# Altium integrated library Analog Devices Data Converters Digital-to-Analog Converters.IntLib: 2231 symbols (part 64 of 181)
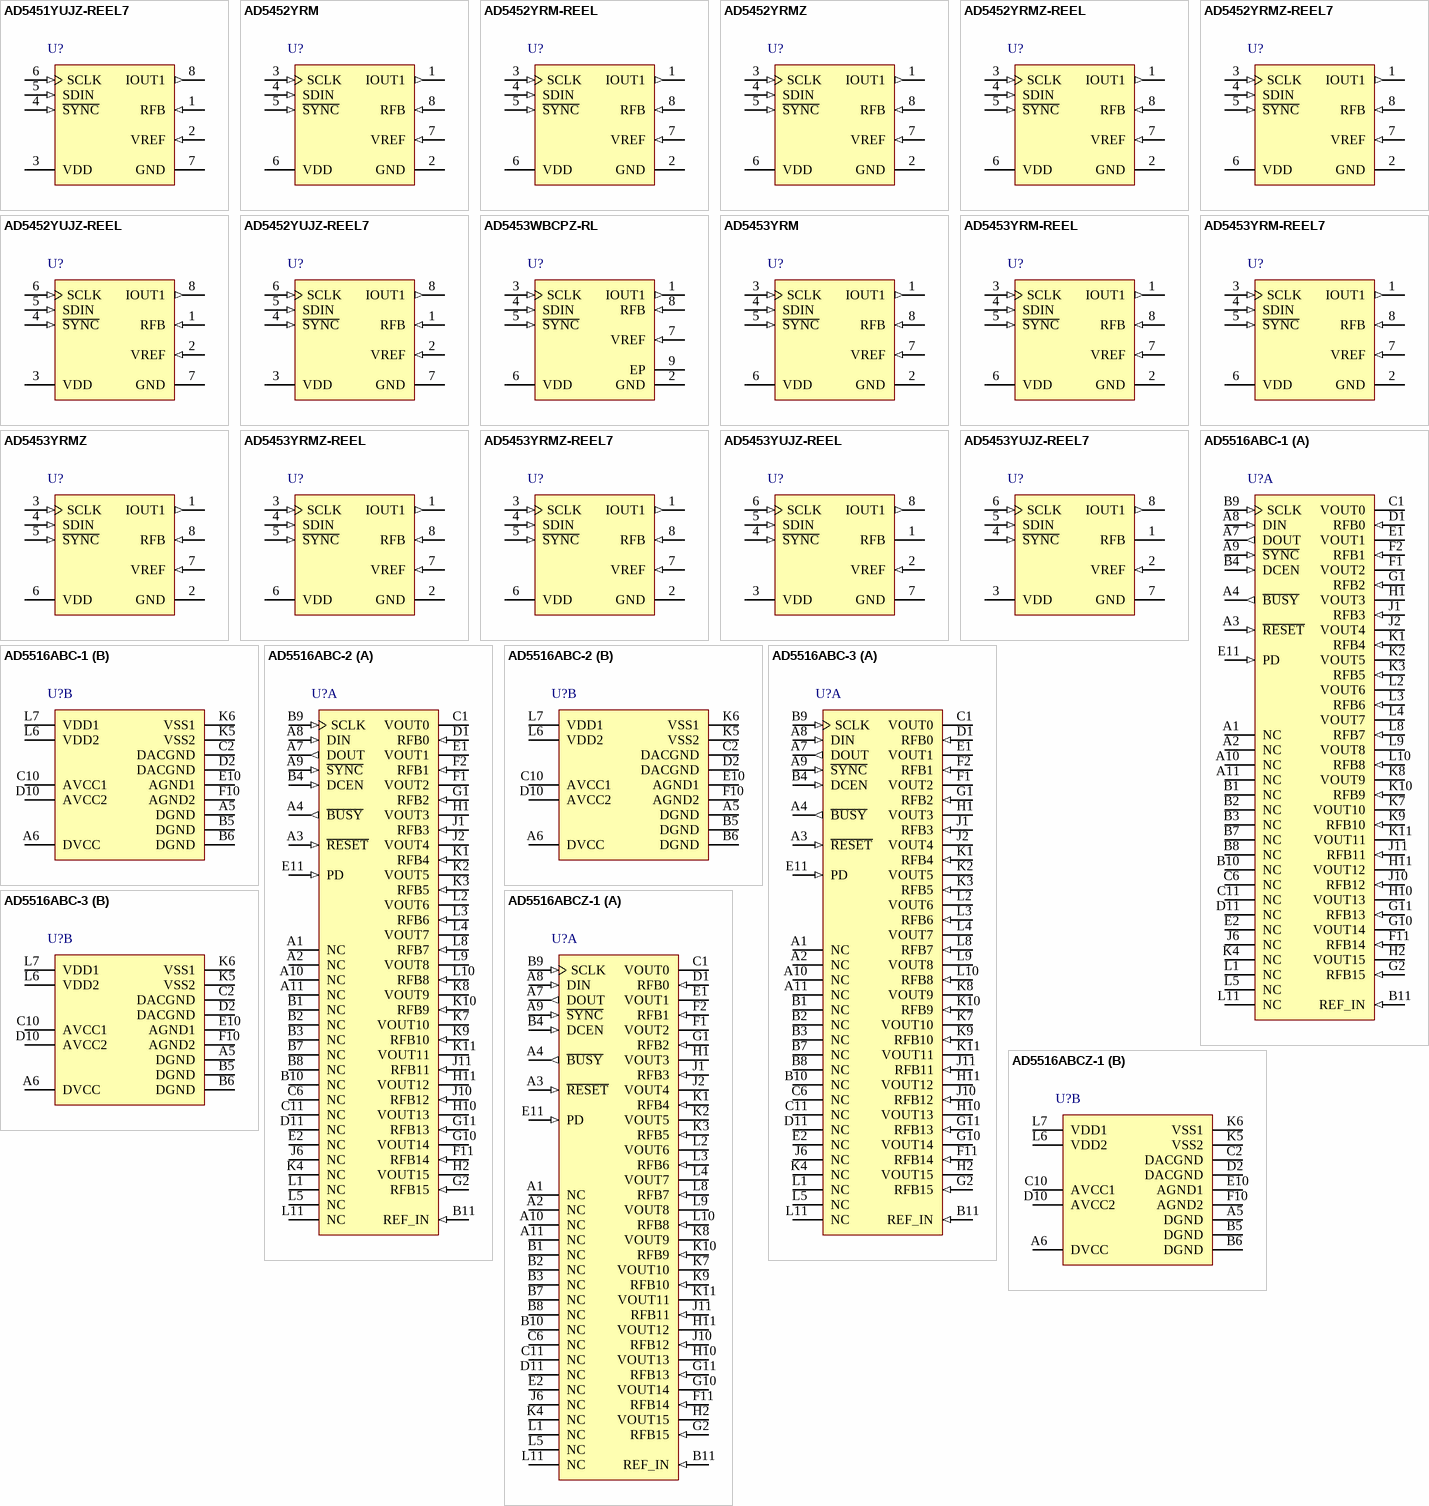
[diagram p177: symbols AD5451YUJZ-REEL7 to AD5516ABCZ-1]

## AD5453YUJZ-REEL7
designator U?
Single 14-Bit High Bandwidth Multiplying Digital-to-Analog Converter, -40 to +125 degC, UJ-8, Pb-Free, Reel; Generic Part Number: AD5453; Manufacturer: Analog Devices; PartNumber: AD5453YUJZ-REEL7; # DAC Outputs: 1; Max V+: 5.5V; Resolution (Bits): 14; Settling Time: 180ns; Single Supply: Yes; DatasheetVersion: Rev.F; PackageVersion: Dec-2004; PackageReference: UJ-8; PackageDescription: 8-Lead Thin Small Outline Transistor Package [TSOT]; Supplier 1: Digi-Key; Supplier Part Number 1: AD5453YUJZ-REEL7TR-ND; Supplier 2: Digi-Key; Supplier Part Number 2: AD5453YUJZ-REEL7CT-ND; Supplier 3: Digi-Key; Supplier Part Number 3: AD5453YUJZ-REEL7DKR-ND; Supplier 4: Newark; Supplier Part Number 4: 52M2953; Supplier 5: Mouser; Supplier Part Number 5: 584-AD5453YUJZ-R7; Packing: Reel; RoHS: Y; Mounting Technology: Surface Mount; Code_JEDEC: MO-193-BA*; ComponentLink1Description: Manufacturer URL; ComponentLink1URL: http://www.analog.com/en/index.html; ComponentLink2Description: Datasheet; ComponentLink2URL: http://www.analog.com/static/imported-files/data_sheets/AD5450_5451_5452_5453.pdf; ComponentLink3Description: Package Specification; ComponentLink3URL: http://www.analog.com/static/imported-files/packages/PKG_PDF/TSOT(UJ)/UJ_8.pdf; ComponentLink4Description: Product URL; ComponentLink4URL: http://www.analog.com/en/digital-to-analog-converters/da-converters/ad5453/products/product.html; ComponentLink5Description: Reference Design URL; ComponentLink5URL: http://www.analog.com/en/digital-to-analog-converters/da-converters/ad5453/products/product.html#prod_cross_sell
footprint UJ-8_N (SOP, 8-Leads, Body 2.9x1.6mm, Pitch 0.65mm, IPC Medium Density)
footprint UJ-8_L (SOP, 8-Leads, Body 2.9x1.6mm, Pitch 0.65mm, IPC High Density)
footprint UJ-8_M (SOP, 8-Leads, Body 2.9x1.6mm, Pitch 0.65mm, IPC Low Density)
pins: 1 RFB "DAC Feedback Resistor. Establish voltage output for the DAC by connecting to external amplifier output.", 2 VREF (in) "DAC Reference Voltage Input.", 3 VDD (power) "Positive Power Supply Input. These parts can operate from a supply of 2.5 V to 5.5 V.", 4 ~{SYNC} (in) "Active Low Control Input. This is the frame synchronization signal for the input data. Data is loaded to the shift register upon the active edge of the following clocks.", 5 SDIN (in) "Serial Data Input. Data is clocked into the 16-bit input register upon the active edge of the serial clock input. By default, in power-up mode data is clocked into the shift register upon the falling edge of SCLK. The (See Datasheet)", 6 SCLK (in) "Serial Clock Input. By default, data is clocked into the input shift register upon the falling edge of the serial clock input. Alternatively, by means of the serial control bits, the device can be configured such that data (See Datasheet)", 7 GND (power) "Ground Pin.", 8 IOUT1 (out) "DAC Current Output."

## AD5516ABC-1
designator U?
16 Channel 14-Bit Digital-to-Analog Converter, -40 to +85 degC, BC-74, Tray; Generic Part Number: AD5516; Manufacturer: Analog Devices; PartNumber: AD5516ABC-1; # DAC Outputs: 16; Max V+: 13.2V; Op Pwr Diss: 243mW; Resolution (Bits): 14; Settling Time: 32µs; Single Supply: No; DatasheetVersion: Rev.B; PackageVersion: 061306-A; PackageReference: BC-74; PackageDescription: 74-Ball Chip Scale Package Ball Grid Array [CSP_BGA]; Supplier 1: Digi-Key; Supplier Part Number 1: AD5516ABC-1-ND; Supplier 2: Newark; Supplier Part Number 2: 97C8341; Supplier 3: Mouser; Supplier Part Number 3: 584-AD5516ABC-1; Packing: Tray; RoHS: N; Mounting Technology: Surface Mount; Code_JEDEC: MO-192-ABD-1; ComponentLink1Description: Manufacturer URL; ComponentLink1URL: http://www.analog.com/en/index.html; ComponentLink2Description: Datasheet; ComponentLink2URL: http://www.analog.com/static/imported-files/data_sheets/AD5516.pdf; ComponentLink3Description: Package Specification; ComponentLink3URL: http://www.analog.com/static/imported-files/packages/466795438540441203902150BC_74.pdf; ComponentLink4Description: Product URL; ComponentLink4URL: http://www.analog.com/en/digital-to-analog-converters/da-converters/ad5516/products/product.html
footprint BC-74 (BGA, 74-Leads, Body 12x12mm, Pitch 1mm)
part A pins: A1 NC "Not Internally Connected", A2 NC "Not Internally Connected", A3 ~{RESET} (in) "Active Low Control Input. This resets all DAC registers to power-on value.", A4 ~{BUSY} (out) "Active Low Output. This signal tells the user that the analog calibration loop is active. It goes low during conversion.The duration of the pulse on B\U\S\Y\ determines the maximum DAC update rate, fUPDATE. Further writes to (See Datasheet)", A7 DOUT (out) "Serial Data Output. DOUT can be used for daisy-chaining a number of devices together or for reading back the data in the shift register for diagnostic purposes. Data is clocked out on DOUT on the rising edge of SCLK and is (See Datasheet)", A8 DIN (in) "Serial Data Input. Data must be valid on the falling edge of SCLK.", A9 ~{SYNC} (in) "Active Low Input. This is the frame synchronization signal for the serial interface. While S\Y\N\C\ is low, data is transferred in on the falling edge of SCLK.", A10 NC "Not Internally Connected", A11 NC "Not Internally Connected", B1 NC "Not Internally Connected", B2 NC "Not Internally Connected", B3 NC "Not Internally Connected", B4 DCEN (in) "Active High Control Input. This pin is tied high to enable Daisy-Chain Mode.", B7 NC "Not Internally Connected", B8 NC "Not Internally Connected", B9 SCLK (in) "Serial Clock Input. Data is clocked into the shift register on the falling edge of SCLK. This operates at clock speeds up to 20 MHz.", B10 NC "Not Internally Connected", B11 REF_IN (in) "Reference Input Voltage for All 16 DACs. The recommended value of REF_IN is 3 V.", C1 VOUT0 (hiz) "Analog Output Voltages from the 16 DAC Channels", C6 NC "Not Internally Connected", C11 NC "Not Internally Connected", D1 RFB0 (in) "Feedback Resistors. For nominal output voltage range, connect each RFB to its corresponding VOUT. Access to the feedback resistors enables the user to increase the DAC current drive or generate programmable current sources. (See Datasheet)", D11 NC "Not Internally Connected", E1 VOUT1 (hiz) "Analog Output Voltages from the 16 DAC Channels", E2 NC "Not Internally Connected", E11 PD (in) "Active High Control Input. All DACs go into power-down mode when this pin is high. The DAC outputs go into a high impedance state.", F1 VOUT2 (hiz) "Analog Output Voltages from the 16 DAC Channels", F2 RFB1 (in) "Feedback Resistors. For nominal output voltage range, connect each RFB to its corresponding VOUT. Access to the feedback resistors enables the user to increase the DAC current drive or generate programmable current sources. (See Datasheet)", F11 RFB14 (in) "Feedback Resistors. For nominal output voltage range, connect each RFB to its corresponding VOUT. Access to the feedback resistors enables the user to increase the DAC current drive or generate programmable current sources. (See Datasheet)", G1 RFB2 (in) "Feedback Resistors. For nominal output voltage range, connect each RFB to its corresponding VOUT. Access to the feedback resistors enables the user to increase the DAC current drive or generate programmable current sources. (See Datasheet)", G2 RFB15 (in) "Feedback Resistors. For nominal output voltage range, connect each RFB to its corresponding VOUT. Access to the feedback resistors enables the user to increase the DAC current drive or generate programmable current sources. (See Datasheet)", G10 VOUT14 (hiz) "Analog Output Voltages from the 16 DAC Channels", G11 RFB13 (in) "Feedback Resistors. For nominal output voltage range, connect each RFB to its corresponding VOUT. Access to the feedback resistors enables the user to increase the DAC current drive or generate programmable current sources. (See Datasheet)", H1 VOUT3 (hiz) "Analog Output Voltages from the 16 DAC Channels", H2 VOUT15 (hiz) "Analog Output Voltages from the 16 DAC Channels", H10 VOUT13 (hiz) "Analog Output Voltages from the 16 DAC Channels", H11 VOUT12 (hiz) "Analog Output Voltages from the 16 DAC Channels", J1 RFB3 (in) "Feedback Resistors. For nominal output voltage range, connect each RFB to its corresponding VOUT. Access to the feedback resistors enables the user to increase the DAC current drive or generate programmable current sources. (See Datasheet)", J2 VOUT4 (hiz) "Analog Output Voltages from the 16 DAC Channels", J6 NC "Not Internally Connected", J10 RFB12 (in) "Feedback Resistors. For nominal output voltage range, connect each RFB to its corresponding VOUT. Access to the feedback resistors enables the user to increase the DAC current drive or generate programmable current sources. (See Datasheet)", J11 RFB11 (in) "Feedback Resistors. For nominal output voltage range, connect each RFB to its corresponding VOUT. Access to the feedback resistors enables the user to increase the DAC current drive or generate programmable current sources. (See Datasheet)", K1 RFB4 (in) "Feedback Resistors. For nominal output voltage range, connect each RFB to its corresponding VOUT. Access to the feedback resistors enables the user to increase the DAC current drive or generate programmable current sources. (See Datasheet)", K2 VOUT5 (hiz) "Analog Output Voltages from the 16 DAC Channels", K3 RFB5 (in) "Feedback Resistors. For nominal output voltage range, connect each RFB to its corresponding VOUT. Access to the feedback resistors enables the user to increase the DAC current drive or generate programmable current sources. (See Datasheet)", K4 NC "Not Internally Connected", K7 VOUT10 (hiz) "Analog Output Voltages from the 16 DAC Channels", K8 VOUT9 (hiz) "Analog Output Voltages from the 16 DAC Channels", K9 RFB10 (in) "Feedback Resistors. For nominal output voltage range, connect each RFB to its corresponding VOUT. Access to the feedback resistors enables the user to increase the DAC current drive or generate programmable current sources. (See Datasheet)", K10 RFB9 (in) "Feedback Resistors. For nominal output voltage range, connect each RFB to its corresponding VOUT. Access to the feedback resistors enables the user to increase the DAC current drive or generate programmable current sources. (See Datasheet)", K11 VOUT11 (hiz) "Analog Output Voltages from the 16 DAC Channels", L1 NC "Not Internally Connected", L2 VOUT6 (hiz) "Analog Output Voltages from the 16 DAC Channels", L3 RFB6 (in) "Feedback Resistors. For nominal output voltage range, connect each RFB to its corresponding VOUT. Access to the feedback resistors enables the user to increase the DAC current drive or generate programmable current sources. (See Datasheet)", L4 VOUT7 (hiz) "Analog Output Voltages from the 16 DAC Channels", L5 NC "Not Internally Connected", L8 RFB7 (in) "Feedback Resistors. For nominal output voltage range, connect each RFB to its corresponding VOUT. Access to the feedback resistors enables the user to increase the DAC current drive or generate programmable current sources. (See Datasheet)", L9 VOUT8 (hiz) "Analog Output Voltages from the 16 DAC Channels", L10 RFB8 (in) "Feedback Resistors. For nominal output voltage range, connect each RFB to its corresponding VOUT. Access to the feedback resistors enables the user to increase the DAC current drive or generate programmable current sources. (See Datasheet)", L11 NC "Not Internally Connected"
part B pins: A5 DGND (power) "Digital GND Pins", A6 DVCC (power) "Digital Supply Pin. Voltage range from 2.7 V to 5.25 V.", B5 DGND (power) "Digital GND Pins", B6 DGND (power) "Digital GND Pins", C2 DACGND (power) "Reference GND Supply for All 16 DACs", C10 AVCC1 (power) "Analog Supply Pins. Voltage range from 4.75 V to 5.25 V.", D2 DACGND (power) "Reference GND Supply for All 16 DACs", D10 AVCC2 (power) "Analog Supply Pins. Voltage range from 4.75 V to 5.25 V.", E10 AGND1 (power) "Analog GND Pins", F10 AGND2 (power) "Analog GND Pins", K5 VSS2 (power) "VSS Supply Pins. Voltage range from -4.75 V to -15.75 V.", K6 VSS1 (power) "VSS Supply Pins. Voltage range from -4.75 V to -15.75 V.", L6 VDD2 (power) "VDD Supply Pins. Voltage range from 4.75 V to 15.75 V.", L7 VDD1 (power) "VDD Supply Pins. Voltage range from 4.75 V to 15.75 V."

## AD5516ABC-2
designator U?
16 Channel 14-Bit Digital-to-Analog Converter, -40 to +85 degC, BC-74, Tray; Generic Part Number: AD5516; Manufacturer: Analog Devices; PartNumber: AD5516ABC-2; # DAC Outputs: 16; Max V+: 13.2V; Op Pwr Diss: 243mW; Resolution (Bits): 14; Settling Time: 32µs; Single Supply: No; DatasheetVersion: Rev.B; PackageVersion: 061306-A; PackageReference: BC-74; PackageDescription: 74-Ball Chip Scale Package Ball Grid Array [CSP_BGA]; Supplier 1: Digi-Key; Supplier Part Number 1: AD5516ABC-2-ND; Supplier 2: Mouser; Supplier Part Number 2: 584-AD5516ABC-2; Packing: Tray; RoHS: N; Mounting Technology: Surface Mount; Code_JEDEC: MO-192-ABD-1; ComponentLink1Description: Manufacturer URL; ComponentLink1URL: http://www.analog.com/en/index.html; ComponentLink2Description: Datasheet; ComponentLink2URL: http://www.analog.com/static/imported-files/data_sheets/AD5516.pdf; ComponentLink3Description: Package Specification; ComponentLink3URL: http://www.analog.com/static/imported-files/packages/466795438540441203902150BC_74.pdf; ComponentLink4Description: Product URL; ComponentLink4URL: http://www.analog.com/en/digital-to-analog-converters/da-converters/ad5516/products/product.html
footprint BC-74 (BGA, 74-Leads, Body 12x12mm, Pitch 1mm)
part A pins: A1 NC "Not Internally Connected", A2 NC "Not Internally Connected", A3 ~{RESET} (in) "Active Low Control Input. This resets all DAC registers to power-on value.", A4 ~{BUSY} (out) "Active Low Output. This signal tells the user that the analog calibration loop is active. It goes low during conversion.The duration of the pulse on B\U\S\Y\ determines the maximum DAC update rate, fUPDATE. Further writes to (See Datasheet)", A7 DOUT (out) "Serial Data Output. DOUT can be used for daisy-chaining a number of devices together or for reading back the data in the shift register for diagnostic purposes. Data is clocked out on DOUT on the rising edge of SCLK and is (See Datasheet)", A8 DIN (in) "Serial Data Input. Data must be valid on the falling edge of SCLK.", A9 ~{SYNC} (in) "Active Low Input. This is the frame synchronization signal for the serial interface. While S\Y\N\C\ is low, data is transferred in on the falling edge of SCLK.", A10 NC "Not Internally Connected", A11 NC "Not Internally Connected", B1 NC "Not Internally Connected", B2 NC "Not Internally Connected", B3 NC "Not Internally Connected", B4 DCEN (in) "Active High Control Input. This pin is tied high to enable Daisy-Chain Mode.", B7 NC "Not Internally Connected", B8 NC "Not Internally Connected", B9 SCLK (in) "Serial Clock Input. Data is clocked into the shift register on the falling edge of SCLK. This operates at clock speeds up to 20 MHz.", B10 NC "Not Internally Connected", B11 REF_IN (in) "Reference Input Voltage for All 16 DACs. The recommended value of REF_IN is 3 V.", C1 VOUT0 (hiz) "Analog Output Voltages from the 16 DAC Channels", C6 NC "Not Internally Connected", C11 NC "Not Internally Connected", D1 RFB0 (in) "Feedback Resistors. For nominal output voltage range, connect each RFB to its corresponding VOUT. Access to the feedback resistors enables the user to increase the DAC current drive or generate programmable current sources. (See Datasheet)", D11 NC "Not Internally Connected", E1 VOUT1 (hiz) "Analog Output Voltages from the 16 DAC Channels", E2 NC "Not Internally Connected", E11 PD (in) "Active High Control Input. All DACs go into power-down mode when this pin is high. The DAC outputs go into a high impedance state.", F1 VOUT2 (hiz) "Analog Output Voltages from the 16 DAC Channels", F2 RFB1 (in) "Feedback Resistors. For nominal output voltage range, connect each RFB to its corresponding VOUT. Access to the feedback resistors enables the user to increase the DAC current drive or generate programmable current sources. (See Datasheet)", F11 RFB14 (in) "Feedback Resistors. For nominal output voltage range, connect each RFB to its corresponding VOUT. Access to the feedback resistors enables the user to increase the DAC current drive or generate programmable current sources. (See Datasheet)", G1 RFB2 (in) "Feedback Resistors. For nominal output voltage range, connect each RFB to its corresponding VOUT. Access to the feedback resistors enables the user to increase the DAC current drive or generate programmable current sources. (See Datasheet)", G2 RFB15 (in) "Feedback Resistors. For nominal output voltage range, connect each RFB to its corresponding VOUT. Access to the feedback resistors enables the user to increase the DAC current drive or generate programmable current sources. (See Datasheet)", G10 VOUT14 (hiz) "Analog Output Voltages from the 16 DAC Channels", G11 RFB13 (in) "Feedback Resistors. For nominal output voltage range, connect each RFB to its corresponding VOUT. Access to the feedback resistors enables the user to increase the DAC current drive or generate programmable current sources. (See Datasheet)", H1 VOUT3 (hiz) "Analog Output Voltages from the 16 DAC Channels", H2 VOUT15 (hiz) "Analog Output Voltages from the 16 DAC Channels", H10 VOUT13 (hiz) "Analog Output Voltages from the 16 DAC Channels", H11 VOUT12 (hiz) "Analog Output Voltages from the 16 DAC Channels", J1 RFB3 (in) "Feedback Resistors. For nominal output voltage range, connect each RFB to its corresponding VOUT. Access to the feedback resistors enables the user to increase the DAC current drive or generate programmable current sources. (See Datasheet)", J2 VOUT4 (hiz) "Analog Output Voltages from the 16 DAC Channels", J6 NC "Not Internally Connected", J10 RFB12 (in) "Feedback Resistors. For nominal output voltage range, connect each RFB to its corresponding VOUT. Access to the feedback resistors enables the user to increase the DAC current drive or generate programmable current sources. (See Datasheet)", J11 RFB11 (in) "Feedback Resistors. For nominal output voltage range, connect each RFB to its corresponding VOUT. Access to the feedback resistors enables the user to increase the DAC current drive or generate programmable current sources. (See Datasheet)", K1 RFB4 (in) "Feedback Resistors. For nominal output voltage range, connect each RFB to its corresponding VOUT. Access to the feedback resistors enables the user to increase the DAC current drive or generate programmable current sources. (See Datasheet)", K2 VOUT5 (hiz) "Analog Output Voltages from the 16 DAC Channels", K3 RFB5 (in) "Feedback Resistors. For nominal output voltage range, connect each RFB to its corresponding VOUT. Access to the feedback resistors enables the user to increase the DAC current drive or generate programmable current sources. (See Datasheet)", K4 NC "Not Internally Connected", K7 VOUT10 (hiz) "Analog Output Voltages from the 16 DAC Channels", K8 VOUT9 (hiz) "Analog Output Voltages from the 16 DAC Channels", K9 RFB10 (in) "Feedback Resistors. For nominal output voltage range, connect each RFB to its corresponding VOUT. Access to the feedback resistors enables the user to increase the DAC current drive or generate programmable current sources. (See Datasheet)", K10 RFB9 (in) "Feedback Resistors. For nominal output voltage range, connect each RFB to its corresponding VOUT. Access to the feedback resistors enables the user to increase the DAC current drive or generate programmable current sources. (See Datasheet)", K11 VOUT11 (hiz) "Analog Output Voltages from the 16 DAC Channels", L1 NC "Not Internally Connected", L2 VOUT6 (hiz) "Analog Output Voltages from the 16 DAC Channels", L3 RFB6 (in) "Feedback Resistors. For nominal output voltage range, connect each RFB to its corresponding VOUT. Access to the feedback resistors enables the user to increase the DAC current drive or generate programmable current sources. (See Datasheet)", L4 VOUT7 (hiz) "Analog Output Voltages from the 16 DAC Channels", L5 NC "Not Internally Connected", L8 RFB7 (in) "Feedback Resistors. For nominal output voltage range, connect each RFB to its corresponding VOUT. Access to the feedback resistors enables the user to increase the DAC current drive or generate programmable current sources. (See Datasheet)", L9 VOUT8 (hiz) "Analog Output Voltages from the 16 DAC Channels", L10 RFB8 (in) "Feedback Resistors. For nominal output voltage range, connect each RFB to its corresponding VOUT. Access to the feedback resistors enables the user to increase the DAC current drive or generate programmable current sources. (See Datasheet)", L11 NC "Not Internally Connected"
part B pins: A5 DGND (power) "Digital GND Pins", A6 DVCC (power) "Digital Supply Pin. Voltage range from 2.7 V to 5.25 V.", B5 DGND (power) "Digital GND Pins", B6 DGND (power) "Digital GND Pins", C2 DACGND (power) "Reference GND Supply for All 16 DACs", C10 AVCC1 (power) "Analog Supply Pins. Voltage range from 4.75 V to 5.25 V.", D2 DACGND (power) "Reference GND Supply for All 16 DACs", D10 AVCC2 (power) "Analog Supply Pins. Voltage range from 4.75 V to 5.25 V.", E10 AGND1 (power) "Analog GND Pins", F10 AGND2 (power) "Analog GND Pins", K5 VSS2 (power) "VSS Supply Pins. Voltage range from -4.75 V to -15.75 V.", K6 VSS1 (power) "VSS Supply Pins. Voltage range from -4.75 V to -15.75 V.", L6 VDD2 (power) "VDD Supply Pins. Voltage range from 4.75 V to 15.75 V.", L7 VDD1 (power) "VDD Supply Pins. Voltage range from 4.75 V to 15.75 V."

## AD5516ABC-3
designator U?
16 Channel 14-Bit Digital-to-Analog Converter, -40 to +85 degC, BC-74, Tray; Generic Part Number: AD5516; Manufacturer: Analog Devices; PartNumber: AD5516ABC-3; # DAC Outputs: 16; Max V+: 13.2V; Op Pwr Diss: 243mW; Resolution (Bits): 14; Settling Time: 32µs; Single Supply: No; DatasheetVersion: Rev.B; PackageVersion: 061306-A; PackageReference: BC-74; PackageDescription: 74-Ball Chip Scale Package Ball Grid Array [CSP_BGA]; Supplier 1: Digi-Key; Supplier Part Number 1: AD5516ABC-3-ND; Supplier 2: Newark; Supplier Part Number 2: 97C7188; Supplier 3: Mouser; Supplier Part Number 3: 584-AD5516ABC-3; Packing: Tray; RoHS: N; Mounting Technology: Surface Mount; Code_JEDEC: MO-192-ABD-1; ComponentLink1Description: Manufacturer URL; ComponentLink1URL: http://www.analog.com/en/index.html; ComponentLink2Description: Datasheet; ComponentLink2URL: http://www.analog.com/static/imported-files/data_sheets/AD5516.pdf; ComponentLink3Description: Package Specification; ComponentLink3URL: http://www.analog.com/static/imported-files/packages/466795438540441203902150BC_74.pdf; ComponentLink4Description: Product URL; ComponentLink4URL: http://www.analog.com/en/digital-to-analog-converters/da-converters/ad5516/products/product.html
footprint BC-74 (BGA, 74-Leads, Body 12x12mm, Pitch 1mm)
part A pins: A1 NC "Not Internally Connected", A2 NC "Not Internally Connected", A3 ~{RESET} (in) "Active Low Control Input. This resets all DAC registers to power-on value.", A4 ~{BUSY} (out) "Active Low Output. This signal tells the user that the analog calibration loop is active. It goes low during conversion.The duration of the pulse on B\U\S\Y\ determines the maximum DAC update rate, fUPDATE. Further writes to (See Datasheet)", A7 DOUT (out) "Serial Data Output. DOUT can be used for daisy-chaining a number of devices together or for reading back the data in the shift register for diagnostic purposes. Data is clocked out on DOUT on the rising edge of SCLK and is (See Datasheet)", A8 DIN (in) "Serial Data Input. Data must be valid on the falling edge of SCLK.", A9 ~{SYNC} (in) "Active Low Input. This is the frame synchronization signal for the serial interface. While S\Y\N\C\ is low, data is transferred in on the falling edge of SCLK.", A10 NC "Not Internally Connected", A11 NC "Not Internally Connected", B1 NC "Not Internally Connected", B2 NC "Not Internally Connected", B3 NC "Not Internally Connected", B4 DCEN (in) "Active High Control Input. This pin is tied high to enable Daisy-Chain Mode.", B7 NC "Not Internally Connected", B8 NC "Not Internally Connected", B9 SCLK (in) "Serial Clock Input. Data is clocked into the shift register on the falling edge of SCLK. This operates at clock speeds up to 20 MHz.", B10 NC "Not Internally Connected", B11 REF_IN (in) "Reference Input Voltage for All 16 DACs. The recommended value of REF_IN is 3 V.", C1 VOUT0 (hiz) "Analog Output Voltages from the 16 DAC Channels", C6 NC "Not Internally Connected", C11 NC "Not Internally Connected", D1 RFB0 (in) "Feedback Resistors. For nominal output voltage range, connect each RFB to its corresponding VOUT. Access to the feedback resistors enables the user to increase the DAC current drive or generate programmable current sources. (See Datasheet)", D11 NC "Not Internally Connected", E1 VOUT1 (hiz) "Analog Output Voltages from the 16 DAC Channels", E2 NC "Not Internally Connected", E11 PD (in) "Active High Control Input. All DACs go into power-down mode when this pin is high. The DAC outputs go into a high impedance state.", F1 VOUT2 (hiz) "Analog Output Voltages from the 16 DAC Channels", F2 RFB1 (in) "Feedback Resistors. For nominal output voltage range, connect each RFB to its corresponding VOUT. Access to the feedback resistors enables the user to increase the DAC current drive or generate programmable current sources. (See Datasheet)", F11 RFB14 (in) "Feedback Resistors. For nominal output voltage range, connect each RFB to its corresponding VOUT. Access to the feedback resistors enables the user to increase the DAC current drive or generate programmable current sources. (See Datasheet)", G1 RFB2 (in) "Feedback Resistors. For nominal output voltage range, connect each RFB to its corresponding VOUT. Access to the feedback resistors enables the user to increase the DAC current drive or generate programmable current sources. (See Datasheet)", G2 RFB15 (in) "Feedback Resistors. For nominal output voltage range, connect each RFB to its corresponding VOUT. Access to the feedback resistors enables the user to increase the DAC current drive or generate programmable current sources. (See Datasheet)", G10 VOUT14 (hiz) "Analog Output Voltages from the 16 DAC Channels", G11 RFB13 (in) "Feedback Resistors. For nominal output voltage range, connect each RFB to its corresponding VOUT. Access to the feedback resistors enables the user to increase the DAC current drive or generate programmable current sources. (See Datasheet)", H1 VOUT3 (hiz) "Analog Output Voltages from the 16 DAC Channels", H2 VOUT15 (hiz) "Analog Output Voltages from the 16 DAC Channels", H10 VOUT13 (hiz) "Analog Output Voltages from the 16 DAC Channels", H11 VOUT12 (hiz) "Analog Output Voltages from the 16 DAC Channels", J1 RFB3 (in) "Feedback Resistors. For nominal output voltage range, connect each RFB to its corresponding VOUT. Access to the feedback resistors enables the user to increase the DAC current drive or generate programmable current sources. (See Datasheet)", J2 VOUT4 (hiz) "Analog Output Voltages from the 16 DAC Channels", J6 NC "Not Internally Connected", J10 RFB12 (in) "Feedback Resistors. For nominal output voltage range, connect each RFB to its corresponding VOUT. Access to the feedback resistors enables the user to increase the DAC current drive or generate programmable current sources. (See Datasheet)", J11 RFB11 (in) "Feedback Resistors. For nominal output voltage range, connect each RFB to its corresponding VOUT. Access to the feedback resistors enables the user to increase the DAC current drive or generate programmable current sources. (See Datasheet)", K1 RFB4 (in) "Feedback Resistors. For nominal output voltage range, connect each RFB to its corresponding VOUT. Access to the feedback resistors enables the user to increase the DAC current drive or generate programmable current sources. (See Datasheet)", K2 VOUT5 (hiz) "Analog Output Voltages from the 16 DAC Channels", K3 RFB5 (in) "Feedback Resistors. For nominal output voltage range, connect each RFB to its corresponding VOUT. Access to the feedback resistors enables the user to increase the DAC current drive or generate programmable current sources. (See Datasheet)", K4 NC "Not Internally Connected", K7 VOUT10 (hiz) "Analog Output Voltages from the 16 DAC Channels", K8 VOUT9 (hiz) "Analog Output Voltages from the 16 DAC Channels", K9 RFB10 (in) "Feedback Resistors. For nominal output voltage range, connect each RFB to its corresponding VOUT. Access to the feedback resistors enables the user to increase the DAC current drive or generate programmable current sources. (See Datasheet)", K10 RFB9 (in) "Feedback Resistors. For nominal output voltage range, connect each RFB to its corresponding VOUT. Access to the feedback resistors enables the user to increase the DAC current drive or generate programmable current sources. (See Datasheet)", K11 VOUT11 (hiz) "Analog Output Voltages from the 16 DAC Channels", L1 NC "Not Internally Connected", L2 VOUT6 (hiz) "Analog Output Voltages from the 16 DAC Channels", L3 RFB6 (in) "Feedback Resistors. For nominal output voltage range, connect each RFB to its corresponding VOUT. Access to the feedback resistors enables the user to increase the DAC current drive or generate programmable current sources. (See Datasheet)", L4 VOUT7 (hiz) "Analog Output Voltages from the 16 DAC Channels", L5 NC "Not Internally Connected", L8 RFB7 (in) "Feedback Resistors. For nominal output voltage range, connect each RFB to its corresponding VOUT. Access to the feedback resistors enables the user to increase the DAC current drive or generate programmable current sources. (See Datasheet)", L9 VOUT8 (hiz) "Analog Output Voltages from the 16 DAC Channels", L10 RFB8 (in) "Feedback Resistors. For nominal output voltage range, connect each RFB to its corresponding VOUT. Access to the feedback resistors enables the user to increase the DAC current drive or generate programmable current sources. (See Datasheet)", L11 NC "Not Internally Connected"
part B pins: A5 DGND (power) "Digital GND Pins", A6 DVCC (power) "Digital Supply Pin. Voltage range from 2.7 V to 5.25 V.", B5 DGND (power) "Digital GND Pins", B6 DGND (power) "Digital GND Pins", C2 DACGND (power) "Reference GND Supply for All 16 DACs", C10 AVCC1 (power) "Analog Supply Pins. Voltage range from 4.75 V to 5.25 V.", D2 DACGND (power) "Reference GND Supply for All 16 DACs", D10 AVCC2 (power) "Analog Supply Pins. Voltage range from 4.75 V to 5.25 V.", E10 AGND1 (power) "Analog GND Pins", F10 AGND2 (power) "Analog GND Pins", K5 VSS2 (power) "VSS Supply Pins. Voltage range from -4.75 V to -15.75 V.", K6 VSS1 (power) "VSS Supply Pins. Voltage range from -4.75 V to -15.75 V.", L6 VDD2 (power) "VDD Supply Pins. Voltage range from 4.75 V to 15.75 V.", L7 VDD1 (power) "VDD Supply Pins. Voltage range from 4.75 V to 15.75 V."

## AD5516ABCZ-1
designator U?
16 Channel 14-Bit Digital-to-Analog Converter, -40 to +85 degC, BC-74, Pb-Free, Tray; Generic Part Number: AD5516; Manufacturer: Analog Devices; PartNumber: AD5516ABCZ-1; # DAC Outputs: 16; Max V+: 13.2V; Op Pwr Diss: 243mW; Resolution (Bits): 14; Settling Time: 32µs; Single Supply: No; DatasheetVersion: Rev.B; PackageVersion: 061306-A; PackageReference: BC-74; PackageDescription: 74-Ball Chip Scale Package Ball Grid Array [CSP_BGA]; Supplier 1: Digi-Key; Supplier Part Number 1: AD5516ABCZ-1-ND; Supplier 2: Mouser; Supplier Part Number 2: 584-AD5516ABCZ-1; Packing: Tray; RoHS: Y; Mounting Technology: Surface Mount; Code_JEDEC: MO-192-ABD-1; ComponentLink1Description: Manufacturer URL; ComponentLink1URL: http://www.analog.com/en/index.html; ComponentLink2Description: Datasheet; ComponentLink2URL: http://www.analog.com/static/imported-files/data_sheets/AD5516.pdf; ComponentLink3Description: Package Specification; ComponentLink3URL: http://www.analog.com/static/imported-files/packages/466795438540441203902150BC_74.pdf; ComponentLink4Description: Product URL; ComponentLink4URL: http://www.analog.com/en/digital-to-analog-converters/da-converters/ad5516/products/product.html
footprint BC-74 (BGA, 74-Leads, Body 12x12mm, Pitch 1mm)
part A pins: A1 NC "Not Internally Connected", A2 NC "Not Internally Connected", A3 ~{RESET} (in) "Active Low Control Input. This resets all DAC registers to power-on value.", A4 ~{BUSY} (out) "Active Low Output. This signal tells the user that the analog calibration loop is active. It goes low during conversion.The duration of the pulse on B\U\S\Y\ determines the maximum DAC update rate, fUPDATE. Further writes to (See Datasheet)", A7 DOUT (out) "Serial Data Output. DOUT can be used for daisy-chaining a number of devices together or for reading back the data in the shift register for diagnostic purposes. Data is clocked out on DOUT on the rising edge of SCLK and is (See Datasheet)", A8 DIN (in) "Serial Data Input. Data must be valid on the falling edge of SCLK.", A9 ~{SYNC} (in) "Active Low Input. This is the frame synchronization signal for the serial interface. While S\Y\N\C\ is low, data is transferred in on the falling edge of SCLK.", A10 NC "Not Internally Connected", A11 NC "Not Internally Connected", B1 NC "Not Internally Connected", B2 NC "Not Internally Connected", B3 NC "Not Internally Connected", B4 DCEN (in) "Active High Control Input. This pin is tied high to enable Daisy-Chain Mode.", B7 NC "Not Internally Connected", B8 NC "Not Internally Connected", B9 SCLK (in) "Serial Clock Input. Data is clocked into the shift register on the falling edge of SCLK. This operates at clock speeds up to 20 MHz.", B10 NC "Not Internally Connected", B11 REF_IN (in) "Reference Input Voltage for All 16 DACs. The recommended value of REF_IN is 3 V.", C1 VOUT0 (hiz) "Analog Output Voltages from the 16 DAC Channels", C6 NC "Not Internally Connected", C11 NC "Not Internally Connected", D1 RFB0 (in) "Feedback Resistors. For nominal output voltage range, connect each RFB to its corresponding VOUT. Access to the feedback resistors enables the user to increase the DAC current drive or generate programmable current sources. (See Datasheet)", D11 NC "Not Internally Connected", E1 VOUT1 (hiz) "Analog Output Voltages from the 16 DAC Channels", E2 NC "Not Internally Connected", E11 PD (in) "Active High Control Input. All DACs go into power-down mode when this pin is high. The DAC outputs go into a high impedance state.", F1 VOUT2 (hiz) "Analog Output Voltages from the 16 DAC Channels", F2 RFB1 (in) "Feedback Resistors. For nominal output voltage range, connect each RFB to its corresponding VOUT. Access to the feedback resistors enables the user to increase the DAC current drive or generate programmable current sources. (See Datasheet)", F11 RFB14 (in) "Feedback Resistors. For nominal output voltage range, connect each RFB to its corresponding VOUT. Access to the feedback resistors enables the user to increase the DAC current drive or generate programmable current sources. (See Datasheet)", G1 RFB2 (in) "Feedback Resistors. For nominal output voltage range, connect each RFB to its corresponding VOUT. Access to the feedback resistors enables the user to increase the DAC current drive or generate programmable current sources. (See Datasheet)", G2 RFB15 (in) "Feedback Resistors. For nominal output voltage range, connect each RFB to its corresponding VOUT. Access to the feedback resistors enables the user to increase the DAC current drive or generate programmable current sources. (See Datasheet)", G10 VOUT14 (hiz) "Analog Output Voltages from the 16 DAC Channels", G11 RFB13 (in) "Feedback Resistors. For nominal output voltage range, connect each RFB to its corresponding VOUT. Access to the feedback resistors enables the user to increase the DAC current drive or generate programmable current sources. (See Datasheet)", H1 VOUT3 (hiz) "Analog Output Voltages from the 16 DAC Channels", H2 VOUT15 (hiz) "Analog Output Voltages from the 16 DAC Channels", H10 VOUT13 (hiz) "Analog Output Voltages from the 16 DAC Channels", H11 VOUT12 (hiz) "Analog Output Voltages from the 16 DAC Channels", J1 RFB3 (in) "Feedback Resistors. For nominal output voltage range, connect each RFB to its corresponding VOUT. Access to the feedback resistors enables the user to increase the DAC current drive or generate programmable current sources. (See Datasheet)", J2 VOUT4 (hiz) "Analog Output Voltages from the 16 DAC Channels", J6 NC "Not Internally Connected", J10 RFB12 (in) "Feedback Resistors. For nominal output voltage range, connect each RFB to its corresponding VOUT. Access to the feedback resistors enables the user to increase the DAC current drive or generate programmable current sources. (See Datasheet)", J11 RFB11 (in) "Feedback Resistors. For nominal output voltage range, connect each RFB to its corresponding VOUT. Access to the feedback resistors enables the user to increase the DAC current drive or generate programmable current sources. (See Datasheet)", K1 RFB4 (in) "Feedback Resistors. For nominal output voltage range, connect each RFB to its corresponding VOUT. Access to the feedback resistors enables the user to increase the DAC current drive or generate programmable current sources. (See Datasheet)", K2 VOUT5 (hiz) "Analog Output Voltages from the 16 DAC Channels", K3 RFB5 (in) "Feedback Resistors. For nominal output voltage range, connect each RFB to its corresponding VOUT. Access to the feedback resistors enables the user to increase the DAC current drive or generate programmable current sources. (See Datasheet)", K4 NC "Not Internally Connected", K7 VOUT10 (hiz) "Analog Output Voltages from the 16 DAC Channels", K8 VOUT9 (hiz) "Analog Output Voltages from the 16 DAC Channels", K9 RFB10 (in) "Feedback Resistors. For nominal output voltage range, connect each RFB to its corresponding VOUT. Access to the feedback resistors enables the user to increase the DAC current drive or generate programmable current sources. (See Datasheet)", K10 RFB9 (in) "Feedback Resistors. For nominal output voltage range, connect each RFB to its corresponding VOUT. Access to the feedback resistors enables the user to increase the DAC current drive or generate programmable current sources. (See Datasheet)", K11 VOUT11 (hiz) "Analog Output Voltages from the 16 DAC Channels", L1 NC "Not Internally Connected", L2 VOUT6 (hiz) "Analog Output Voltages from the 16 DAC Channels", L3 RFB6 (in) "Feedback Resistors. For nominal output voltage range, connect each RFB to its corresponding VOUT. Access to the feedback resistors enables the user to increase the DAC current drive or generate programmable current sources. (See Datasheet)", L4 VOUT7 (hiz) "Analog Output Voltages from the 16 DAC Channels", L5 NC "Not Internally Connected", L8 RFB7 (in) "Feedback Resistors. For nominal output voltage range, connect each RFB to its corresponding VOUT. Access to the feedback resistors enables the user to increase the DAC current drive or generate programmable current sources. (See Datasheet)", L9 VOUT8 (hiz) "Analog Output Voltages from the 16 DAC Channels", L10 RFB8 (in) "Feedback Resistors. For nominal output voltage range, connect each RFB to its corresponding VOUT. Access to the feedback resistors enables the user to increase the DAC current drive or generate programmable current sources. (See Datasheet)", L11 NC "Not Internally Connected"
part B pins: A5 DGND (power) "Digital GND Pins", A6 DVCC (power) "Digital Supply Pin. Voltage range from 2.7 V to 5.25 V.", B5 DGND (power) "Digital GND Pins", B6 DGND (power) "Digital GND Pins", C2 DACGND (power) "Reference GND Supply for All 16 DACs", C10 AVCC1 (power) "Analog Supply Pins. Voltage range from 4.75 V to 5.25 V.", D2 DACGND (power) "Reference GND Supply for All 16 DACs", D10 AVCC2 (power) "Analog Supply Pins. Voltage range from 4.75 V to 5.25 V.", E10 AGND1 (power) "Analog GND Pins", F10 AGND2 (power) "Analog GND Pins", K5 VSS2 (power) "VSS Supply Pins. Voltage range from -4.75 V to -15.75 V.", K6 VSS1 (power) "VSS Supply Pins. Voltage range from -4.75 V to -15.75 V.", L6 VDD2 (power) "VDD Supply Pins. Voltage range from 4.75 V to 15.75 V.", L7 VDD1 (power) "VDD Supply Pins. Voltage range from 4.75 V to 15.75 V."

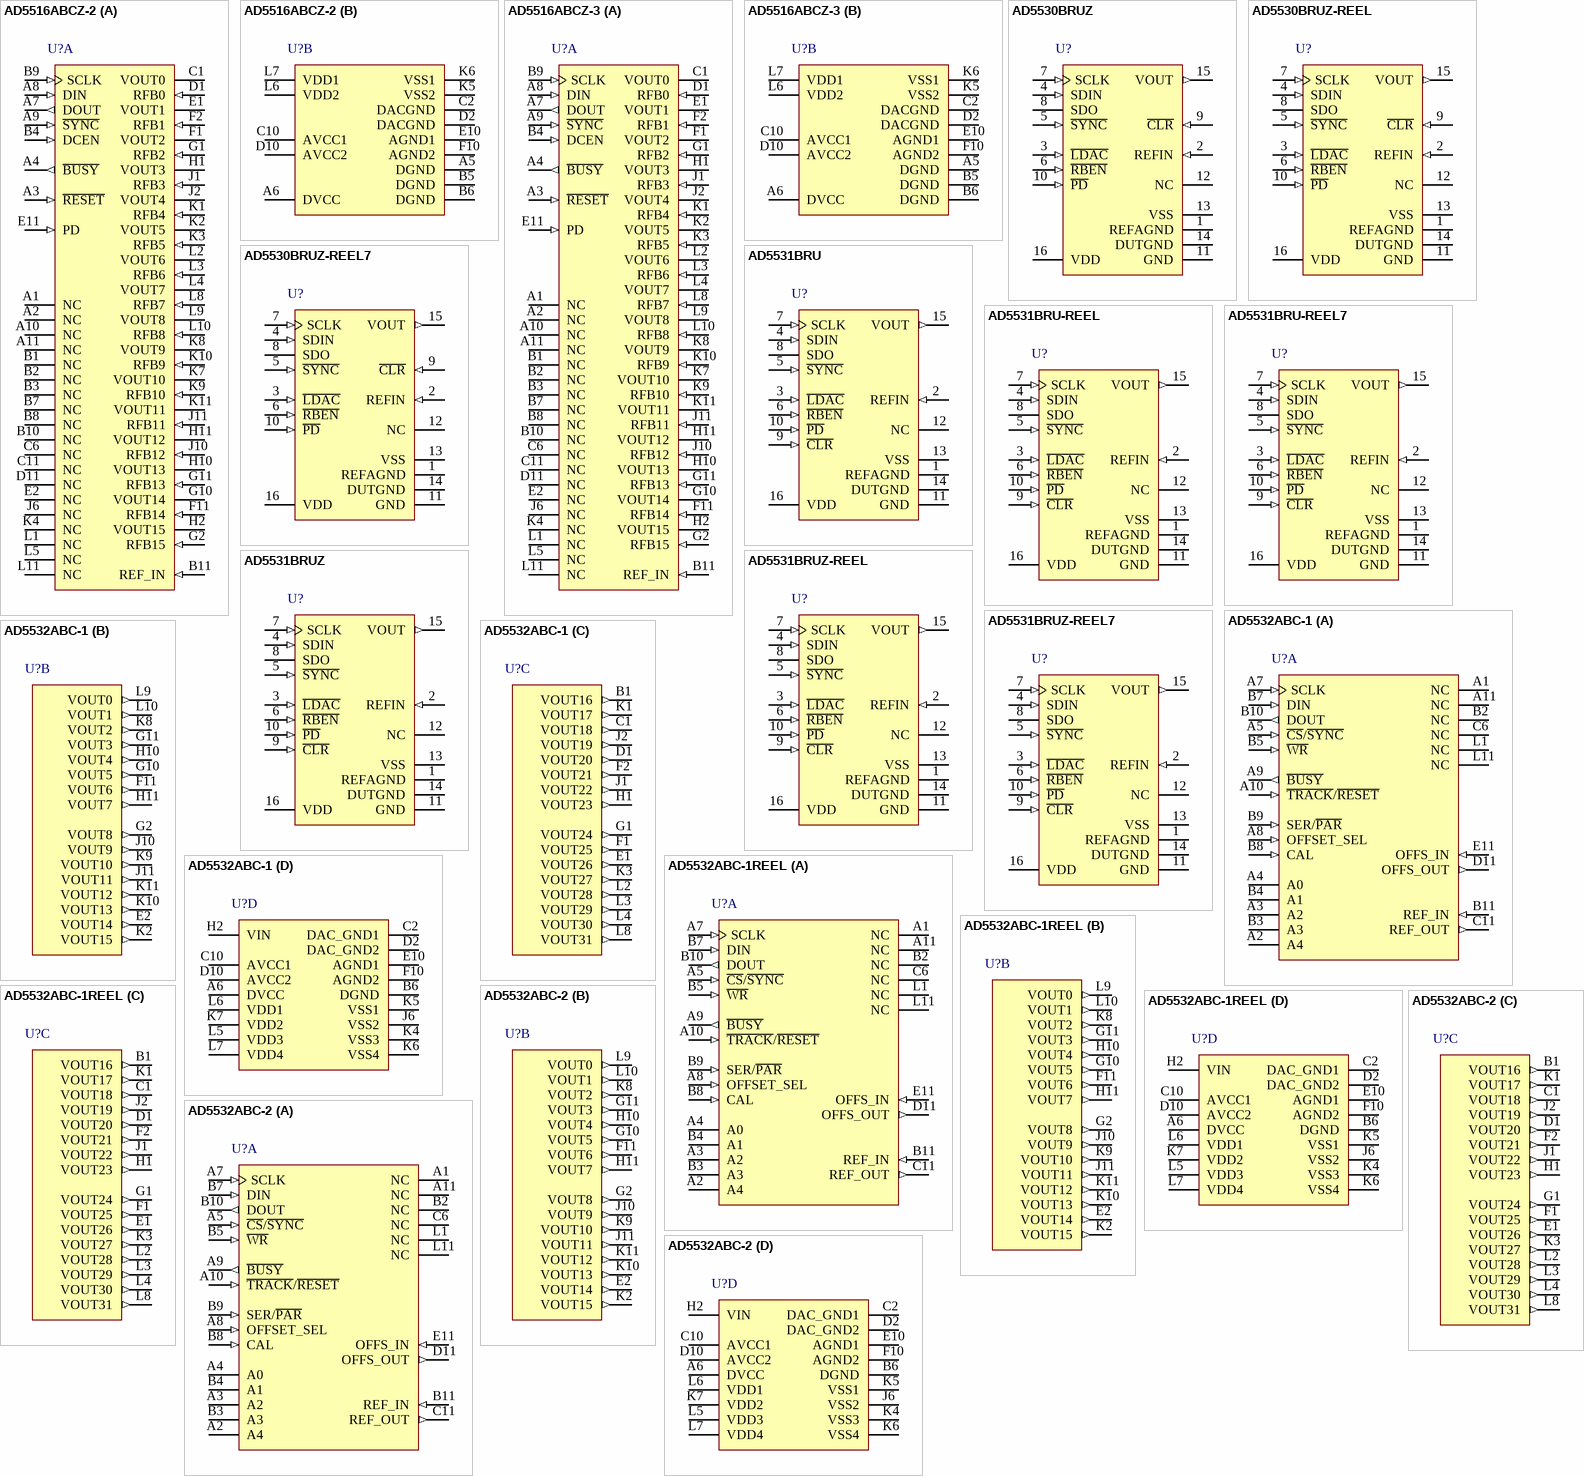
[diagram p35: symbols AD5516ABCZ-2 to AD5532ABC-2]

## AD5516ABCZ-2
designator U?
16 Channel 14-Bit Digital-to-Analog Converter, -40 to +85 degC, BC-74, Pb-Free, Tray; Generic Part Number: AD5516; Manufacturer: Analog Devices; PartNumber: AD5516ABCZ-2; # DAC Outputs: 16; Max V+: 13.2V; Op Pwr Diss: 243mW; Resolution (Bits): 14; Settling Time: 32µs; Single Supply: No; DatasheetVersion: Rev.B; PackageVersion: 061306-A; PackageReference: BC-74; PackageDescription: 74-Ball Chip Scale Package Ball Grid Array [CSP_BGA]; Supplier 1: Digi-Key; Supplier Part Number 1: AD5516ABCZ-2-ND; Supplier 2: Mouser; Supplier Part Number 2: 584-AD5516ABCZ-2; Packing: Tray; RoHS: Y; Mounting Technology: Surface Mount; Code_JEDEC: MO-192-ABD-1; ComponentLink1Description: Manufacturer URL; ComponentLink1URL: http://www.analog.com/en/index.html; ComponentLink2Description: Datasheet; ComponentLink2URL: http://www.analog.com/static/imported-files/data_sheets/AD5516.pdf; ComponentLink3Description: Package Specification; ComponentLink3URL: http://www.analog.com/static/imported-files/packages/466795438540441203902150BC_74.pdf; ComponentLink4Description: Product URL; ComponentLink4URL: http://www.analog.com/en/digital-to-analog-converters/da-converters/ad5516/products/product.html
footprint BC-74 (BGA, 74-Leads, Body 12x12mm, Pitch 1mm)
part A pins: A1 NC "Not Internally Connected", A2 NC "Not Internally Connected", A3 ~{RESET} (in) "Active Low Control Input. This resets all DAC registers to power-on value.", A4 ~{BUSY} (out) "Active Low Output. This signal tells the user that the analog calibration loop is active. It goes low during conversion.The duration of the pulse on B\U\S\Y\ determines the maximum DAC update rate, fUPDATE. Further writes to (See Datasheet)", A7 DOUT (out) "Serial Data Output. DOUT can be used for daisy-chaining a number of devices together or for reading back the data in the shift register for diagnostic purposes. Data is clocked out on DOUT on the rising edge of SCLK and is (See Datasheet)", A8 DIN (in) "Serial Data Input. Data must be valid on the falling edge of SCLK.", A9 ~{SYNC} (in) "Active Low Input. This is the frame synchronization signal for the serial interface. While S\Y\N\C\ is low, data is transferred in on the falling edge of SCLK.", A10 NC "Not Internally Connected", A11 NC "Not Internally Connected", B1 NC "Not Internally Connected", B2 NC "Not Internally Connected", B3 NC "Not Internally Connected", B4 DCEN (in) "Active High Control Input. This pin is tied high to enable Daisy-Chain Mode.", B7 NC "Not Internally Connected", B8 NC "Not Internally Connected", B9 SCLK (in) "Serial Clock Input. Data is clocked into the shift register on the falling edge of SCLK. This operates at clock speeds up to 20 MHz.", B10 NC "Not Internally Connected", B11 REF_IN (in) "Reference Input Voltage for All 16 DACs. The recommended value of REF_IN is 3 V.", C1 VOUT0 (hiz) "Analog Output Voltages from the 16 DAC Channels", C6 NC "Not Internally Connected", C11 NC "Not Internally Connected", D1 RFB0 (in) "Feedback Resistors. For nominal output voltage range, connect each RFB to its corresponding VOUT. Access to the feedback resistors enables the user to increase the DAC current drive or generate programmable current sources. (See Datasheet)", D11 NC "Not Internally Connected", E1 VOUT1 (hiz) "Analog Output Voltages from the 16 DAC Channels", E2 NC "Not Internally Connected", E11 PD (in) "Active High Control Input. All DACs go into power-down mode when this pin is high. The DAC outputs go into a high impedance state.", F1 VOUT2 (hiz) "Analog Output Voltages from the 16 DAC Channels", F2 RFB1 (in) "Feedback Resistors. For nominal output voltage range, connect each RFB to its corresponding VOUT. Access to the feedback resistors enables the user to increase the DAC current drive or generate programmable current sources. (See Datasheet)", F11 RFB14 (in) "Feedback Resistors. For nominal output voltage range, connect each RFB to its corresponding VOUT. Access to the feedback resistors enables the user to increase the DAC current drive or generate programmable current sources. (See Datasheet)", G1 RFB2 (in) "Feedback Resistors. For nominal output voltage range, connect each RFB to its corresponding VOUT. Access to the feedback resistors enables the user to increase the DAC current drive or generate programmable current sources. (See Datasheet)", G2 RFB15 (in) "Feedback Resistors. For nominal output voltage range, connect each RFB to its corresponding VOUT. Access to the feedback resistors enables the user to increase the DAC current drive or generate programmable current sources. (See Datasheet)", G10 VOUT14 (hiz) "Analog Output Voltages from the 16 DAC Channels", G11 RFB13 (in) "Feedback Resistors. For nominal output voltage range, connect each RFB to its corresponding VOUT. Access to the feedback resistors enables the user to increase the DAC current drive or generate programmable current sources. (See Datasheet)", H1 VOUT3 (hiz) "Analog Output Voltages from the 16 DAC Channels", H2 VOUT15 (hiz) "Analog Output Voltages from the 16 DAC Channels", H10 VOUT13 (hiz) "Analog Output Voltages from the 16 DAC Channels", H11 VOUT12 (hiz) "Analog Output Voltages from the 16 DAC Channels", J1 RFB3 (in) "Feedback Resistors. For nominal output voltage range, connect each RFB to its corresponding VOUT. Access to the feedback resistors enables the user to increase the DAC current drive or generate programmable current sources. (See Datasheet)", J2 VOUT4 (hiz) "Analog Output Voltages from the 16 DAC Channels", J6 NC "Not Internally Connected", J10 RFB12 (in) "Feedback Resistors. For nominal output voltage range, connect each RFB to its corresponding VOUT. Access to the feedback resistors enables the user to increase the DAC current drive or generate programmable current sources. (See Datasheet)", J11 RFB11 (in) "Feedback Resistors. For nominal output voltage range, connect each RFB to its corresponding VOUT. Access to the feedback resistors enables the user to increase the DAC current drive or generate programmable current sources. (See Datasheet)", K1 RFB4 (in) "Feedback Resistors. For nominal output voltage range, connect each RFB to its corresponding VOUT. Access to the feedback resistors enables the user to increase the DAC current drive or generate programmable current sources. (See Datasheet)", K2 VOUT5 (hiz) "Analog Output Voltages from the 16 DAC Channels", K3 RFB5 (in) "Feedback Resistors. For nominal output voltage range, connect each RFB to its corresponding VOUT. Access to the feedback resistors enables the user to increase the DAC current drive or generate programmable current sources. (See Datasheet)", K4 NC "Not Internally Connected", K7 VOUT10 (hiz) "Analog Output Voltages from the 16 DAC Channels", K8 VOUT9 (hiz) "Analog Output Voltages from the 16 DAC Channels", K9 RFB10 (in) "Feedback Resistors. For nominal output voltage range, connect each RFB to its corresponding VOUT. Access to the feedback resistors enables the user to increase the DAC current drive or generate programmable current sources. (See Datasheet)", K10 RFB9 (in) "Feedback Resistors. For nominal output voltage range, connect each RFB to its corresponding VOUT. Access to the feedback resistors enables the user to increase the DAC current drive or generate programmable current sources. (See Datasheet)", K11 VOUT11 (hiz) "Analog Output Voltages from the 16 DAC Channels", L1 NC "Not Internally Connected", L2 VOUT6 (hiz) "Analog Output Voltages from the 16 DAC Channels", L3 RFB6 (in) "Feedback Resistors. For nominal output voltage range, connect each RFB to its corresponding VOUT. Access to the feedback resistors enables the user to increase the DAC current drive or generate programmable current sources. (See Datasheet)", L4 VOUT7 (hiz) "Analog Output Voltages from the 16 DAC Channels", L5 NC "Not Internally Connected", L8 RFB7 (in) "Feedback Resistors. For nominal output voltage range, connect each RFB to its corresponding VOUT. Access to the feedback resistors enables the user to increase the DAC current drive or generate programmable current sources. (See Datasheet)", L9 VOUT8 (hiz) "Analog Output Voltages from the 16 DAC Channels", L10 RFB8 (in) "Feedback Resistors. For nominal output voltage range, connect each RFB to its corresponding VOUT. Access to the feedback resistors enables the user to increase the DAC current drive or generate programmable current sources. (See Datasheet)", L11 NC "Not Internally Connected"
part B pins: A5 DGND (power) "Digital GND Pins", A6 DVCC (power) "Digital Supply Pin. Voltage range from 2.7 V to 5.25 V.", B5 DGND (power) "Digital GND Pins", B6 DGND (power) "Digital GND Pins", C2 DACGND (power) "Reference GND Supply for All 16 DACs", C10 AVCC1 (power) "Analog Supply Pins. Voltage range from 4.75 V to 5.25 V.", D2 DACGND (power) "Reference GND Supply for All 16 DACs", D10 AVCC2 (power) "Analog Supply Pins. Voltage range from 4.75 V to 5.25 V.", E10 AGND1 (power) "Analog GND Pins", F10 AGND2 (power) "Analog GND Pins", K5 VSS2 (power) "VSS Supply Pins. Voltage range from -4.75 V to -15.75 V.", K6 VSS1 (power) "VSS Supply Pins. Voltage range from -4.75 V to -15.75 V.", L6 VDD2 (power) "VDD Supply Pins. Voltage range from 4.75 V to 15.75 V.", L7 VDD1 (power) "VDD Supply Pins. Voltage range from 4.75 V to 15.75 V."